# Altium footprint library 1812_SIDE.PcbLib: 1 footprints
Each footprint in its own frame and in the unit in brackets; x right, y up, seen from the top. Pads: shape width x height; smd on the part's side, far side on the other; paste and mask are expansions set on the pad; w line width, h text height; cw(c..) or ccw(c..) is an arc to the next point about the centre after c.
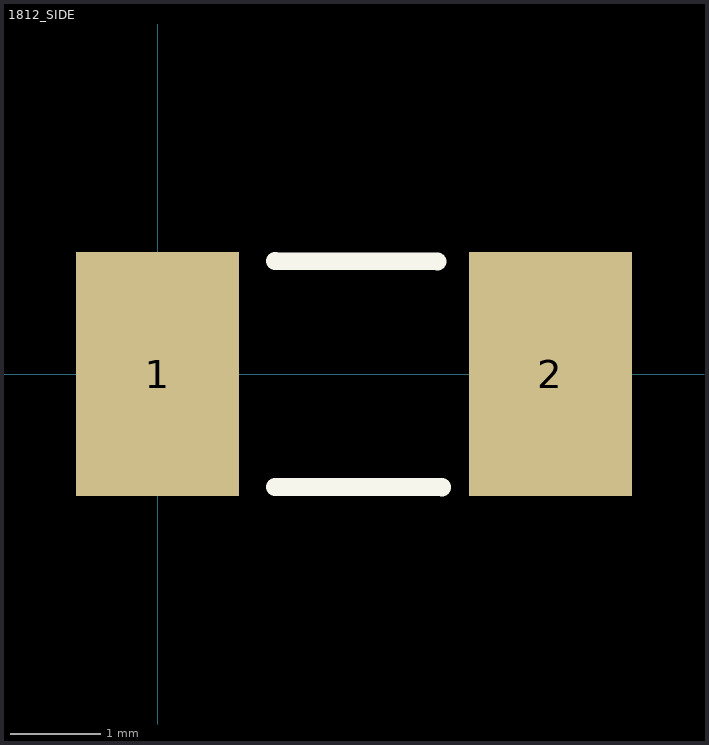
[diagram p0: the footprint, top view; thin cyan lines are the x and y axes]

## 1812_SIDE [mm]
pads (2):
  rect 1.8x2.692 smd: 1(0,0) 2(4.34,0)
Top Overlay:
  lines w0.2: 1.3,-1.25 3.141,-1.252 ; 1.3,1.25 3.094,1.243
3D body: height 3.2, standoff 0, extent -0.091,-0.84 4.409,0.762